# EAGLE library part CON_01X20 (library PP_Connectors)
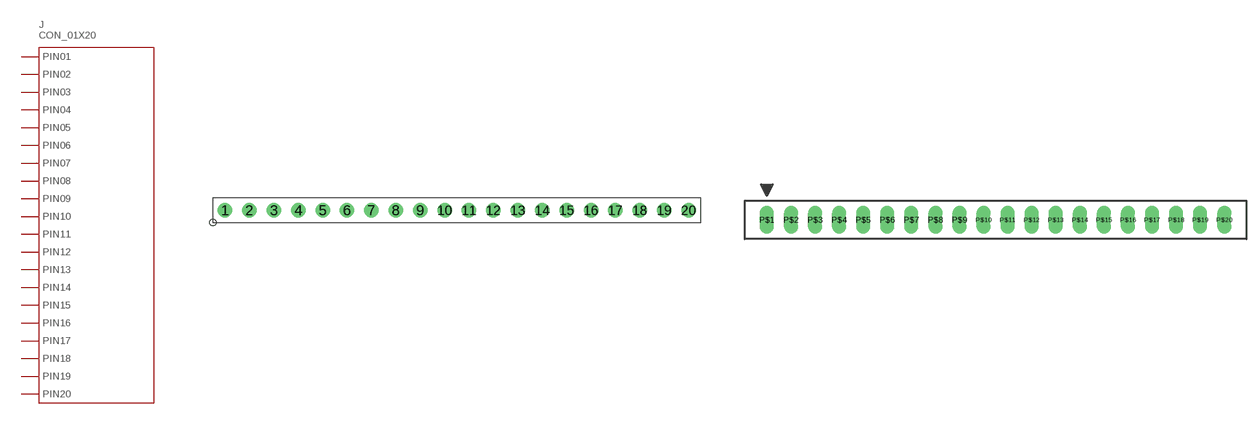
[diagram p22: symbol with the pads of 2.54MM_01X20_PIN_HEADER; footprints 2.54MM_01X20_PIN_HEADER, 2-644750-0]

Designator prefix J

## CON_01X20_2.54MM_PIN_HEADER (POPULATE: 1)  [2.54MM_01X20_PIN_HEADER]
1  1
2  2
3  3
4  4
5  5
6  6
7  7
8  8
9  9
10  10
11  11
12  12
13  13
14  14
15  15
16  16
17  17
18  18
19  19
20  20

## CON_01X20_2-644750-0  [2-644750-0]
P$1  1
P$2  2
P$3  3
P$4  4
P$5  5
P$6  6
P$7  7
P$8  8
P$9  9
P$10  10
P$11  11
P$12  12
P$13  13
P$14  14
P$15  15
P$16  16
P$17  17
P$18  18
P$19  19
P$20  20

## Footprint 2.54MM_01X20_PIN_HEADER (pad centres in mm)
drill 1: 1 -24.13,0; 2 -21.59,0; 3 -19.05,0; 4 -16.51,0; 5 -13.97,0; 6 -11.43,0; 7 -8.89,0; 8 -6.35,0; 9 -3.81,0; 10 -1.27,0; 11 1.27,0; 12 3.81,0; 13 6.35,0; 14 8.89,0; 15 11.43,0; 16 13.97,0; 17 16.51,0; 18 19.05,0; 19 21.59,0; 20 24.13,0

## Footprint 2-644750-0 (pad centres in mm)
drill 1.524 long: P$1 -37.643,0; P$2 -33.68,0; P$3 -29.718,0; P$4 -25.756,0; P$5 -21.793,0; P$6 -17.831,0; P$7 -13.868,0; P$8 -9.906,0; P$9 -5.944,0; P$10 -1.981,0; P$11 1.981,0; P$12 5.944,0; P$13 9.906,0; P$14 13.868,0; P$15 17.831,0; P$16 21.793,0; P$17 25.756,0; P$18 29.718,0; P$19 33.68,0; P$20 37.643,0